# Altium schematic symbol library Diode_TVS.SchLib: 2 symbols
Pins are listed as number, name and electrical type; pins without a type are passive.

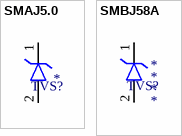
[diagram p0: symbols SMAJ5.0 to SMBJ58A]

## SMAJ5.0
designator TVS?
TVS DIODE DO-214AC, SMA; Manufacturer 1: *; Manufacturer Part Number 1: *; Package: SMA; Supplier 1: *; Supplier Part Number 1: *; Value: *
footprint SMAJ (DO-214AC)
pins: 1 K, 2 A

## SMBJ58A
designator TVS?
TVS DIODE DO-214AA, SMB; Manufacturer 1: *; Manufacturer Part Number 1: *; Value: *; PD: *; VRV: *; VCL: *; VBR: *
footprint SMBJ58A (TVS DIODE DO-214AA, SMB)
pins: 1 K, 2 A